# Altium schematic symbol library Connectors.SchLib: 56 symbols (part 2 of 2)
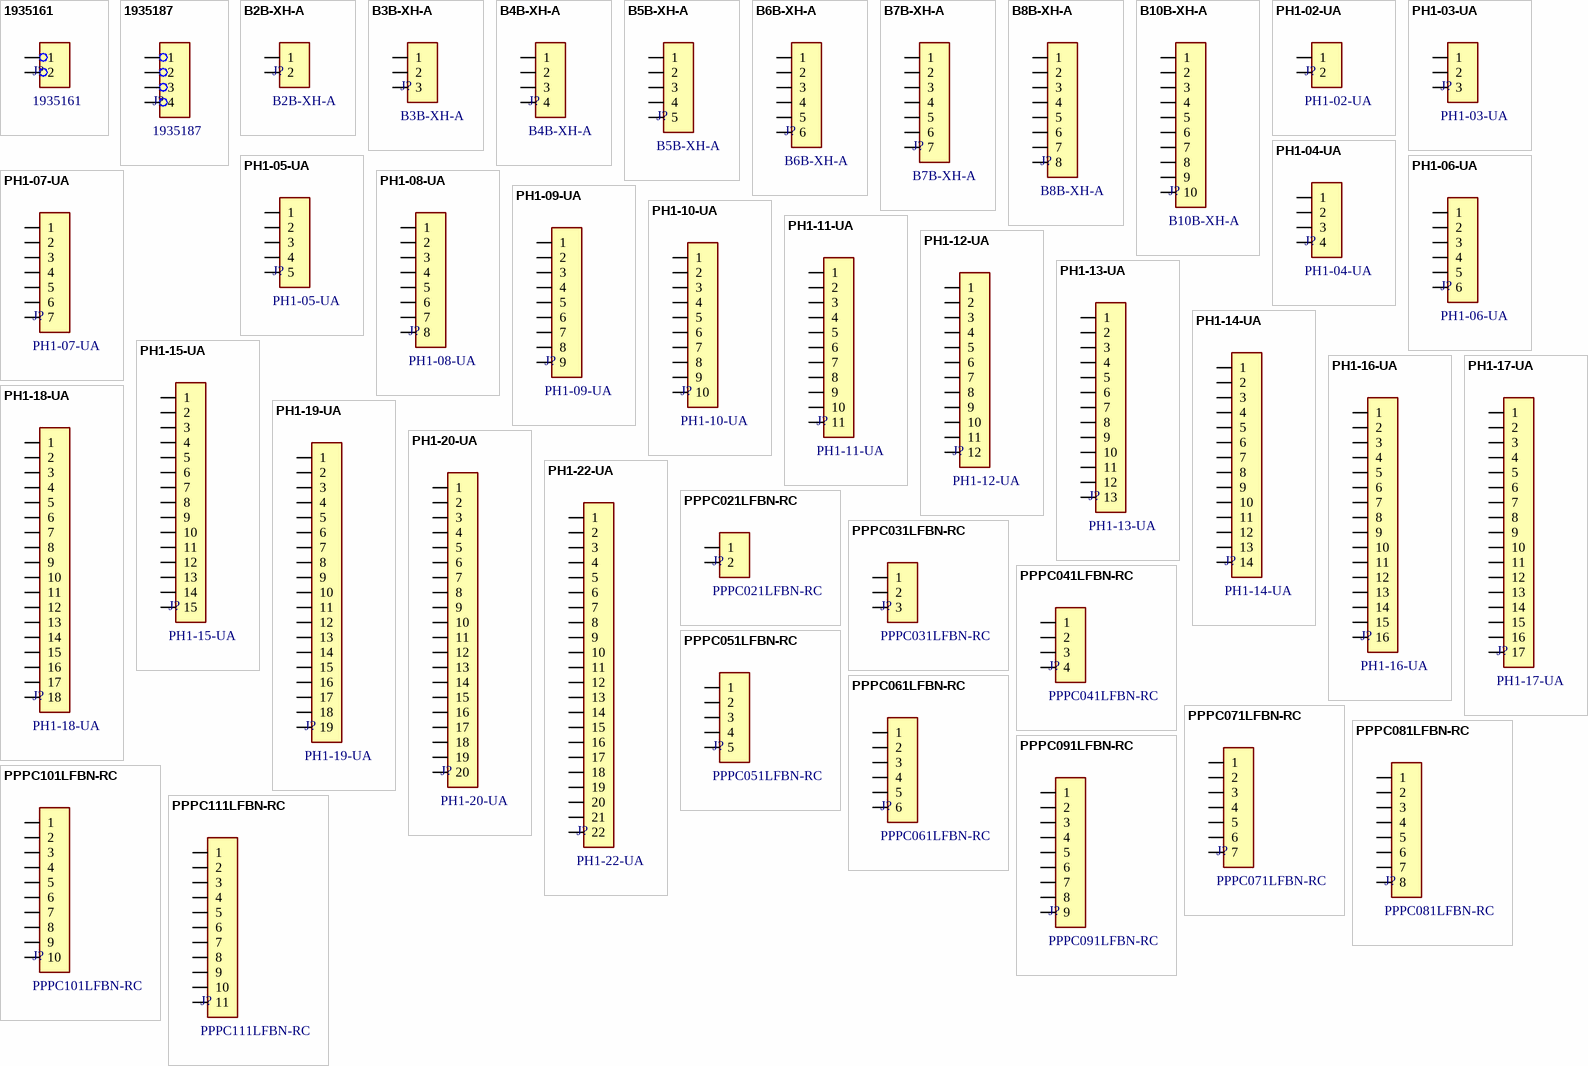
[diagram p2: symbols 1935161 to PPPC111LFBN-RC]

## PPPC031LFBN-RC
designator J?
CONN HDR 3POS 0.1 GOLD PCB; Manufacturer: Sullins; Connector Type: Header, Socket; Current Rating: 3A; Dielectric Material: Polyester; Number of Contacts: 3; Pitch: 2.54mm; Voltage Rating: 250V; Supplier: DigiKey; Supplier Part Number: S7036-ND; Manufacturer Part Number: PPPC031LFBN-RC; RoHS: Compliant; Category: Card Edge Connectors; Stock: 27245; Pricing: 1=0.31, 10=0.264, 100=0.2242, 500=0.20012, 1000=0.19056, 5000=0.17009, 10000=0.16197 (USD); Color: Black; Contact Gender: Female; Contact Material: Gold, Nickel; Contact Plating: Gold; Height: 8.7mm; Housing Material: Plastic; Lead Free: Lead Free; Length: 8.12mm; Lifecycle Status: Production; Max Operating Temperature: 105°C; Min Operating Temperature: -40°C; Mounting Technology: Through Hole; Pins: 3; Number of Positions: 3; Number of Rows: 1; Packaging: Bulk; REACH SVHC: Yes; Terminal Pitch: 2.54mm; Termination: Solder; Width: 2.5mm; ComponentLink1URL: https://datasheet.octopart.com:443/PPPC031LFBN-RC-Sullins-datasheet-138810743.pdf?src-supplier=IHS; ComponentLink1Description: https://datasheet.octopart.com:443/PPPC031LFBN-RC-Sullins-datasheet-138810743.pdf?src-supplier=IHS; ComponentLink2URL: https://sigma.octopart.com:443/83216130/technical_drawing/Sullins-PPPC031LFBN-RC.pdf?src-supplier=Upverter; ComponentLink2Description: https://sigma.octopart.com:443/83216130/technical_drawing/Sullins-PPPC031LFBN-RC.pdf?src-supplier=Upverter; ComponentLink3URL: https://datasheet.octopart.com:443/PPPC031LFBN-RC-Sullins-datasheet-41308905.pdf?src-supplier=Future+Electronics; ComponentLink3Description: https://datasheet.octopart.com:443/PPPC031LFBN-RC-Sullins-datasheet-41308905.pdf?src-supplier=Future+Electronics; ComponentLink4URL: https://datasheet.octopart.com:443/PPPC031LFBN-RC-Sullins-datasheet-12511165.pdf?src-supplier=Future+Electronics; ComponentLink4Description: https://datasheet.octopart.com:443/PPPC031LFBN-RC-Sullins-datasheet-12511165.pdf?src-supplier=Future+Electronics
footprint CON_HDR_FEM_VERT_3P_2P54_PITCH
pins: 1, 2, 3

## PPPC041LFBN-RC
designator J?
CONN HDR 4POS 0.1 GOLD PCB; Manufacturer: Sullins; Connector Type: Header, Socket; Current Rating: 3A; Dielectric Material: Polyester; Number of Positions: 4; Pitch: 2.54mm; Supplier: DigiKey; Supplier Part Number: S7037-ND; Manufacturer Part Number: PPPC041LFBN-RC; RoHS: Compliant; Category: Card Edge Connectors; Stock: 30890; Pricing: 1=0.38, 10=0.321, 100=0.2724, 500=0.24312, 1000=0.23151, 5000=0.20664, 10000=0.19678 (USD); Color: Black; Contact Gender: Female; Contact Material: Bronze; Contact Plating: Gold; Height: 8.5mm; Housing Material: Plastic; Lead Free: Lead Free; Length: 10.7mm; Lifecycle Status: Production; Mounting Technology: Through Hole; Pins: 4; Number of Rows: 1; Packaging: Bulk; REACH SVHC: Yes; Terminal Pitch: 2.54mm; Termination: Solder; Width: 2.5mm; ComponentLink1URL: https://datasheet.octopart.com:443/PPPC041LFBN-RC-Sullins-datasheet-138810743.pdf?src-supplier=IHS; ComponentLink1Description: https://datasheet.octopart.com:443/PPPC041LFBN-RC-Sullins-datasheet-138810743.pdf?src-supplier=IHS; ComponentLink2URL: https://datasheet.octopart.com:443/PPPC041LFBN-RC-Sullins-datasheet-41308905.pdf?src-supplier=Future+Electronics; ComponentLink2Description: https://datasheet.octopart.com:443/PPPC041LFBN-RC-Sullins-datasheet-41308905.pdf?src-supplier=Future+Electronics; ComponentLink3URL: https://datasheet.octopart.com:443/PPPC041LFBN-RC-Sullins-datasheet-12511165.pdf?src-supplier=Future+Electronics; ComponentLink3Description: https://datasheet.octopart.com:443/PPPC041LFBN-RC-Sullins-datasheet-12511165.pdf?src-supplier=Future+Electronics
footprint CON_HDR_FEM_VERT_4P_2P54_PITCH
pins: 1, 2, 3, 4

## PPPC051LFBN-RC
designator J?
CONN HDR 5POS 0.1 GOLD PCB; Manufacturer: Sullins; Connector Type: Header, Socket; Current Rating: 3A; Dielectric Material: Polyester; Number of Positions: 5; Pitch: 2.54mm; Supplier: DigiKey; Supplier Part Number: S7038-ND; Manufacturer Part Number: PPPC051LFBN-RC; RoHS: Compliant; Category: Card Edge Connectors; Stock: 38154; Pricing: 1=0.39, 10=0.335, 100=0.2843, 500=0.25376, 1000=0.24163, 5000=0.21568, 10000=0.20539 (USD); Color: Black; Contact Gender: Female; Contact Material: Bronze; Contact Plating: Gold; Height: 8.5mm; Housing Material: Plastic; Lead Free: Lead Free; Length: 13.2mm; Lifecycle Status: Production; Mounting Technology: Through Hole; Pins: 5; Number of Rows: 1; Packaging: Bulk; REACH SVHC: Yes; Terminal Pitch: 2.54mm; Termination: Solder; Width: 2.5mm; ComponentLink1URL: https://datasheet.octopart.com:443/PPPC051LFBN-RC-Sullins-datasheet-138810743.pdf?src-supplier=IHS; ComponentLink1Description: https://datasheet.octopart.com:443/PPPC051LFBN-RC-Sullins-datasheet-138810743.pdf?src-supplier=IHS; ComponentLink2URL: https://datasheet.octopart.com:443/PPPC051LFBN-RC-Sullins-datasheet-41308905.pdf?src-supplier=Future+Electronics; ComponentLink2Description: https://datasheet.octopart.com:443/PPPC051LFBN-RC-Sullins-datasheet-41308905.pdf?src-supplier=Future+Electronics; ComponentLink3URL: https://datasheet.octopart.com:443/PPPC051LFBN-RC-Sullins-datasheet-12511165.pdf?src-supplier=Future+Electronics; ComponentLink3Description: https://datasheet.octopart.com:443/PPPC051LFBN-RC-Sullins-datasheet-12511165.pdf?src-supplier=Future+Electronics
footprint CON_HDR_FEM_VERT_5P_2P54_PITCH
pins: 1, 2, 3, 4, 5

## PPPC061LFBN-RC
designator J?
CONN HDR 6POS 0.1 GOLD PCB; Manufacturer: Sullins; Connector Type: Header, Socket; Current Rating: 3A; Dielectric Material: Polyester; Number of Contacts: 6; Pitch: 2.54mm; Voltage Rating: 250V; Supplier: DigiKey; Supplier Part Number: S7039-ND; Manufacturer Part Number: PPPC061LFBN-RC; RoHS: Compliant; Category: Card Edge Connectors; Stock: 19179; Pricing: 1=0.43, 10=0.363, 100=0.308, 500=0.2749, 1000=0.26177, 5000=0.23366, 10000=0.22251 (USD); Color: Black; Contact Gender: Female; Contact Material: Gold, Nickel; Contact Plating: Gold; Height: 8.7mm; Housing Material: Plastic; Lead Free: Lead Free; Length: 15.7mm; Lifecycle Status: Production; Max Operating Temperature: 105°C; Min Operating Temperature: -40°C; Mounting Technology: Through Hole; Pins: 6; Number of Positions: 6; Number of Rows: 1; Packaging: Bulk; REACH SVHC: Yes; Terminal Pitch: 2.54mm; Termination: Solder; Width: 2.5mm; ComponentLink1URL: https://datasheet.octopart.com:443/PPPC061LFBN-RC-Sullins-datasheet-138810743.pdf?src-supplier=IHS; ComponentLink1Description: https://datasheet.octopart.com:443/PPPC061LFBN-RC-Sullins-datasheet-138810743.pdf?src-supplier=IHS; ComponentLink2URL: https://sigma.octopart.com:443/83216130/technical_drawing/Sullins-PPPC061LFBN-RC.pdf?src-supplier=Upverter; ComponentLink2Description: https://sigma.octopart.com:443/83216130/technical_drawing/Sullins-PPPC061LFBN-RC.pdf?src-supplier=Upverter; ComponentLink3URL: https://datasheet.octopart.com:443/PPPC061LFBN-RC-Sullins-datasheet-47864048.pdf?src-supplier=Future+Electronics; ComponentLink3Description: https://datasheet.octopart.com:443/PPPC061LFBN-RC-Sullins-datasheet-47864048.pdf?src-supplier=Future+Electronics
footprint CON_HDR_FEM_VERT_6P_2P54_PITCH
pins: 1, 2, 3, 4, 5, 6

## PPPC071LFBN-RC
designator J?
CONN HDR 7POS 0.1 GOLD PCB; Manufacturer: Sullins; Connector Type: Header, Socket; Current Rating: 3A; Dielectric Material: Polyester; Number of Positions: 7; Pitch: 2.54mm; Supplier: DigiKey; Supplier Part Number: S7040-ND; Manufacturer Part Number: PPPC071LFBN-RC; RoHS: Compliant; Category: Card Edge Connectors; Stock: 22423; Pricing: 1=0.48, 10=0.412, 100=0.3499, 500=0.3123, 1000=0.29738, 5000=0.26545, 10000=0.25279 (USD); Color: Black; Contact Gender: Female; Contact Material: Bronze; Contact Plating: Gold; Height: 8.5mm; Housing Material: Plastic; Lead Free: Lead Free; Lead Pitch: 2.54mm; Length: 18.3mm; Lifecycle Status: Production; Max Operating Temperature: 105°C; Min Operating Temperature: -40°C; Mounting Technology: Through Hole; Pins: 7; Number of Rows: 1; Packaging: Bulk; REACH SVHC: Yes; Terminal Pitch: 2.54mm; Termination: Solder; Width: 2.5mm; ComponentLink1URL: https://datasheet.octopart.com:443/PPPC071LFBN-RC-Sullins-datasheet-138810743.pdf?src-supplier=IHS; ComponentLink1Description: https://datasheet.octopart.com:443/PPPC071LFBN-RC-Sullins-datasheet-138810743.pdf?src-supplier=IHS; ComponentLink2URL: https://datasheet.octopart.com:443/PPPC071LFBN-RC-Sullins-datasheet-32035511.pdf?src-supplier=Upverter; ComponentLink2Description: https://datasheet.octopart.com:443/PPPC071LFBN-RC-Sullins-datasheet-32035511.pdf?src-supplier=Upverter
footprint CON_HDR_FEM_VERT_7P_2P54_PITCH
pins: 1, 2, 3, 4, 5, 6, 7

## PPPC081LFBN-RC
designator J?
CONN HDR 8POS 0.1 GOLD PCB; Manufacturer: Sullins; Connector Type: Header, Socket; Current Rating: 3A; Dielectric Material: Polyester; Number of Contacts: 8; Pitch: 2.54mm; Voltage Rating: 250V; Supplier: DigiKey; Supplier Part Number: S7041-ND; Manufacturer Part Number: PPPC081LFBN-RC; RoHS: Compliant; Category: Headers and Wire Housings; Stock: 28483; Pricing: 1=0.53, 10=0.449, 100=0.3814, 500=0.34044, 1000=0.32417, 5000=0.28937, 10000=0.27556 (USD); Case/Package: TO-252-3; Color: Black; Contact Gender: Female; Contact Material: Gold, Nickel; Contact Plating: Gold; Height: 2.39mm; Housing Material: Plastic; Lead Free: Lead Free; Length: 6.73mm; Lifecycle Status: Production; Max Operating Temperature: 105°C; Min Operating Temperature: -40°C; Mounting Technology: Surface Mount; Pins: 8; Number of Positions: 8; Number of Rows: 1; Packaging: Tape and Reel; Radiation Hardening: No; REACH SVHC: Yes; Terminal Pitch: 2.54mm; Termination: Solder; Width: 6.22mm; ComponentLink1URL: https://datasheet.octopart.com:443/PPPC081LFBN-RC-Sullins-datasheet-138810743.pdf?src-supplier=IHS; ComponentLink1Description: https://datasheet.octopart.com:443/PPPC081LFBN-RC-Sullins-datasheet-138810743.pdf?src-supplier=IHS; ComponentLink2URL: https://datasheet.octopart.com:443/PPPC081LFBN-RC-Sullins-datasheet-41308905.pdf?src-supplier=Upverter; ComponentLink2Description: https://datasheet.octopart.com:443/PPPC081LFBN-RC-Sullins-datasheet-41308905.pdf?src-supplier=Upverter; ComponentLink3URL: https://sigma.octopart.com:443/83216130/technical_drawing/Sullins-PPPC081LFBN-RC.pdf?src-supplier=Upverter; ComponentLink3Description: https://sigma.octopart.com:443/83216130/technical_drawing/Sullins-PPPC081LFBN-RC.pdf?src-supplier=Upverter; ComponentLink4URL: https://datasheet.octopart.com:443/PPPC081LFBN-RC-Sullins-datasheet-12511165.pdf?src-supplier=Future+Electronics; ComponentLink4Description: https://datasheet.octopart.com:443/PPPC081LFBN-RC-Sullins-datasheet-12511165.pdf?src-supplier=Future+Electronics
footprint CON_HDR_FEM_VERT_8P_2P54_PITCH
pins: 1, 2, 3, 4, 5, 6, 7, 8

## PPPC091LFBN-RC
designator J?
CONN HDR 9POS 0.1 GOLD PCB; Manufacturer: Sullins; Connector Type: Header, Socket; Current Rating: 3A; Dielectric Material: Polyester; Number of Contacts: 9; Pitch: 2.54mm; Voltage Rating: 250V; Supplier: DigiKey; Supplier Part Number: S7042-ND; Manufacturer Part Number: PPPC091LFBN-RC; RoHS: Compliant; Category: Card Edge Connectors; Stock: 17765; Pricing: 1=0.58, 10=0.49, 100=0.416, 500=0.37132, 1000=0.35358, 5000=0.31562, 10000=0.30163 (USD); Color: Black; Contact Gender: Female; Contact Material: Gold, Nickel; Contact Plating: Gold; Height: 8.7mm; Housing Material: Plastic; Lead Free: Lead Free; Length: 23.4mm; Lifecycle Status: Production; Max Operating Temperature: 105°C; Min Operating Temperature: -40°C; Mounting Technology: Through Hole; Pins: 9; Number of Positions: 9; Number of Rows: 1; Packaging: Bulk; REACH SVHC: Yes; Terminal Pitch: 2.54mm; Termination: Solder; Width: 2.5mm; ComponentLink1URL: https://datasheet.octopart.com:443/PPPC091LFBN-RC-Sullins-datasheet-138810743.pdf?src-supplier=IHS; ComponentLink1Description: https://datasheet.octopart.com:443/PPPC091LFBN-RC-Sullins-datasheet-138810743.pdf?src-supplier=IHS; ComponentLink2URL: https://sigma.octopart.com:443/83216130/technical_drawing/Sullins-PPPC091LFBN-RC.pdf?src-supplier=Future+Electronics; ComponentLink2Description: https://sigma.octopart.com:443/83216130/technical_drawing/Sullins-PPPC091LFBN-RC.pdf?src-supplier=Future+Electronics
footprint CON_HDR_FEM_VERT_9P_2P54_PITCH
pins: 1, 2, 3, 4, 5, 6, 7, 8, 9

## PPPC101LFBN-RC
designator J?
CONN HDR 10POS 0.1 GOLD PCB; Manufacturer: Sullins; Connector Type: Header, Socket; Current Rating: 3A; Dielectric Material: Polyester; Number of Contacts: 10; Pitch: 2.54mm; Voltage Rating: 250V; Supplier: DigiKey; Supplier Part Number: S7043-ND; Manufacturer Part Number: PPPC101LFBN-RC; RoHS: Compliant; Category: Card Edge Connectors; Stock: 25256; Pricing: 1=0.58, 10=0.493, 100=0.4193, 500=0.37422, 1000=0.35634, 5000=0.31808, 10000=0.3042 (USD); Color: Black; Contact Gender: Female; Contact Material: Gold, Nickel; Contact Plating: Gold; Height: 8.7mm; Housing Material: Plastic; Lead Free: Lead Free; Length: 25.9mm; Lifecycle Status: Production; Max Operating Temperature: 105°C; Min Operating Temperature: -40°C; Mounting Technology: Through Hole; Pins: 10; Number of Positions: 10; Number of Rows: 1; Packaging: Bulk; REACH SVHC: Yes; Terminal Pitch: 2.54mm; Termination: Solder; Width: 2.5mm; ComponentLink1URL: https://datasheet.octopart.com:443/PPPC101LFBN-RC-Sullins-datasheet-138810743.pdf?src-supplier=IHS; ComponentLink1Description: https://datasheet.octopart.com:443/PPPC101LFBN-RC-Sullins-datasheet-138810743.pdf?src-supplier=IHS; ComponentLink2URL: https://sigma.octopart.com:443/83216130/technical_drawing/Sullins-PPPC101LFBN-RC.pdf?src-supplier=Upverter; ComponentLink2Description: https://sigma.octopart.com:443/83216130/technical_drawing/Sullins-PPPC101LFBN-RC.pdf?src-supplier=Upverter; ComponentLink3URL: https://datasheet.octopart.com:443/PPPC101LFBN-RC-Sullins-datasheet-41308905.pdf?src-supplier=Future+Electronics; ComponentLink3Description: https://datasheet.octopart.com:443/PPPC101LFBN-RC-Sullins-datasheet-41308905.pdf?src-supplier=Future+Electronics; ComponentLink4URL: https://datasheet.octopart.com:443/PPPC101LFBN-RC-Sullins-datasheet-12511165.pdf?src-supplier=Future+Electronics; ComponentLink4Description: https://datasheet.octopart.com:443/PPPC101LFBN-RC-Sullins-datasheet-12511165.pdf?src-supplier=Future+Electronics
footprint CON_HDR_FEM_VERT_10P_2P54_PITCH
pins: 1, 2, 3, 4, 5, 6, 7, 8, 9, 10

## PPPC111LFBN-RC
designator J?
CONN HDR 11POS 0.1 GOLD PCB; Manufacturer: Sullins; Connector Type: Header, Socket; Current Rating: 3A; Dielectric Material: Polyester; Number of Positions: 11; Pitch: 2.54mm; Supplier: DigiKey; Supplier Part Number: S7044-ND; Manufacturer Part Number: PPPC111LFBN-RC; RoHS: Compliant; Category: Card Edge Connectors; Stock: 2469; Pricing: 1=0.7, 10=0.591, 100=0.5021, 500=0.44812, 1000=0.42673, 5000=0.38092, 10000=0.3705 (USD); Color: Black; Contact Gender: Female; Contact Material: Bronze; Contact Plating: Gold; Height: 8.5mm; Housing Material: Plastic; Lead Free: Lead Free; Length: 28.4mm; Lifecycle Status: Production; Mounting Technology: Through Hole; Pins: 11; Number of Rows: 1; Packaging: Bulk; REACH SVHC: Yes; Terminal Pitch: 2.54mm; Termination: Solder; Width: 2.5mm; ComponentLink1URL: https://datasheet.octopart.com:443/PPPC111LFBN-RC-Sullins-datasheet-138810743.pdf?src-supplier=IHS; ComponentLink1Description: https://datasheet.octopart.com:443/PPPC111LFBN-RC-Sullins-datasheet-138810743.pdf?src-supplier=IHS
footprint CON_HDR_FEM_VERT_11P_2P54_PITCH
pins: 1, 2, 3, 4, 5, 6, 7, 8, 9, 10, 11

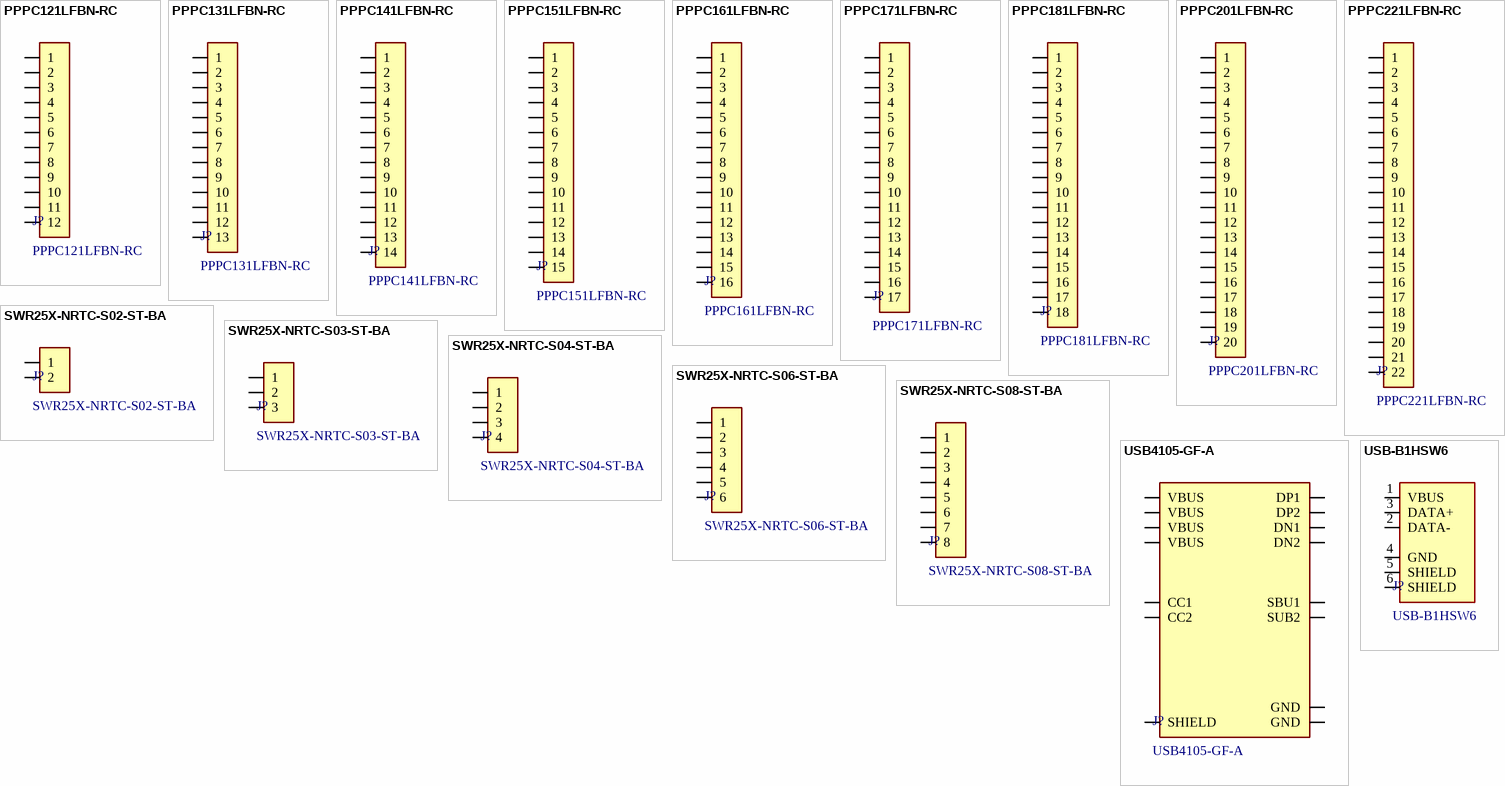
[diagram p1: symbols PPPC121LFBN-RC to USB-B1HSW6]

## PPPC121LFBN-RC
designator J?
CONN HDR 12POS 0.1 GOLD PCB; Manufacturer: Sullins; Connector Type: Header, Socket; Current Rating: 3A; Dielectric Material: Polyester; Number of Positions: 12; Pitch: 2.54mm; Supplier: DigiKey; Supplier Part Number: S7045-ND; Manufacturer Part Number: PPPC121LFBN-RC; RoHS: Compliant; Category: Card Edge Connectors; Stock: 16843; Pricing: 1=0.69, 10=0.587, 100=0.4991, 500=0.44542, 1000=0.42414, 5000=0.37861, 10000=0.36804 (USD); Color: Black; Contact Gender: Female; Contact Material: Bronze; Contact Plating: Gold; Height: 8.5mm; Housing Material: Plastic; Lead Free: Lead Free; Length: 31mm; Lifecycle Status: Production; Max Operating Temperature: 105°C; Min Operating Temperature: -40°C; Mounting Technology: Through Hole; Pins: 12; Number of Rows: 1; Packaging: Bulk; REACH SVHC: Yes; Terminal Pitch: 2.54mm; Termination: Solder; Width: 2.5mm; ComponentLink1URL: https://datasheet.octopart.com:443/PPPC121LFBN-RC-Sullins-datasheet-138810743.pdf?src-supplier=IHS; ComponentLink1Description: https://datasheet.octopart.com:443/PPPC121LFBN-RC-Sullins-datasheet-138810743.pdf?src-supplier=IHS; ComponentLink2URL: https://datasheet.octopart.com:443/PPPC121LFBN-RC-Sullins-datasheet-47864048.pdf?src-supplier=Upverter; ComponentLink2Description: https://datasheet.octopart.com:443/PPPC121LFBN-RC-Sullins-datasheet-47864048.pdf?src-supplier=Upverter; ComponentLink3URL: https://datasheet.octopart.com:443/PPPC121LFBN-RC-Sullins-datasheet-41308905.pdf?src-supplier=Future+Electronics; ComponentLink3Description: https://datasheet.octopart.com:443/PPPC121LFBN-RC-Sullins-datasheet-41308905.pdf?src-supplier=Future+Electronics; ComponentLink4URL: https://datasheet.octopart.com:443/PPPC121LFBN-RC-Sullins-datasheet-12511165.pdf?src-supplier=Future+Electronics; ComponentLink4Description: https://datasheet.octopart.com:443/PPPC121LFBN-RC-Sullins-datasheet-12511165.pdf?src-supplier=Future+Electronics
footprint CON_HDR_FEM_VERT_12P_2P54_PITCH
pins: 1, 2, 3, 4, 5, 6, 7, 8, 9, 10, 11, 12

## PPPC131LFBN-RC
designator J?
CONN HDR 13POS 0.1 GOLD PCB; Manufacturer: Sullins; Connector Type: Header, Socket; Current Rating: 3A; Dielectric Material: Polyester; Number of Positions: 13; Pitch: 2.54mm; Supplier: DigiKey; Supplier Part Number: S7046-ND; Manufacturer Part Number: PPPC131LFBN-RC; RoHS: Compliant; Category: Card Edge Connectors; Stock: 10689; Pricing: 1=0.76, 10=0.644, 100=0.5471, 500=0.48828, 1000=0.46497, 5000=0.41506, 10000=0.40697 (USD); Color: Black; Contact Gender: Female; Contact Material: Bronze; Contact Plating: Gold; Height: 8.5mm; Housing Material: Plastic; Lead Free: Lead Free; Length: 33.5mm; Lifecycle Status: Production; Mounting Technology: Through Hole; Pins: 13; Number of Rows: 1; Packaging: Bulk; REACH SVHC: Yes; Terminal Pitch: 2.54mm; Termination: Solder; Width: 2.5mm; ComponentLink1URL: https://datasheet.octopart.com:443/PPPC131LFBN-RC-Sullins-datasheet-138810743.pdf?src-supplier=IHS; ComponentLink1Description: https://datasheet.octopart.com:443/PPPC131LFBN-RC-Sullins-datasheet-138810743.pdf?src-supplier=IHS
footprint CON_HDR_FEM_VERT_13P_2P54_PITCH
pins: 1, 2, 3, 4, 5, 6, 7, 8, 9, 10, 11, 12, 13

## PPPC141LFBN-RC
designator J?
CONN HDR 14POS 0.1 GOLD PCB; Manufacturer: Sullins; Connector Type: Header, Socket; Current Rating: 3A; Dielectric Material: Polyester; Number of Positions: 14; Pitch: 2.54mm; Supplier: DigiKey; Supplier Part Number: S7047-ND; Manufacturer Part Number: PPPC141LFBN-RC; RoHS: Compliant; Category: Card Edge Connectors; Stock: 9730; Pricing: 1=0.87, 10=0.737, 100=0.6264, 500=0.55906, 1000=0.53236, 5000=0.47523, 10000=0.4719 (USD); Color: Black; Contact Gender: Female; Contact Material: Bronze; Contact Plating: Gold; Height: 8.5mm; Housing Material: Plastic; Lead Free: Lead Free; Length: 36.1mm; Lifecycle Status: Production; Max Operating Temperature: 105°C; Min Operating Temperature: -40°C; Mounting Technology: Through Hole; Pins: 14; Number of Rows: 1; Packaging: Bulk; REACH SVHC: Yes; Terminal Pitch: 2.54mm; Termination: Solder; Width: 2.5mm; ComponentLink1URL: https://datasheet.octopart.com:443/PPPC141LFBN-RC-Sullins-datasheet-138810743.pdf?src-supplier=IHS; ComponentLink1Description: https://datasheet.octopart.com:443/PPPC141LFBN-RC-Sullins-datasheet-138810743.pdf?src-supplier=IHS; ComponentLink2URL: https://datasheet.octopart.com:443/PPPC141LFBN-RC-Sullins-datasheet-83216130.pdf?src-supplier=Upverter; ComponentLink2Description: https://datasheet.octopart.com:443/PPPC141LFBN-RC-Sullins-datasheet-83216130.pdf?src-supplier=Upverter; ComponentLink3URL: https://datasheet.octopart.com:443/PPPC141LFBN-RC-Sullins-datasheet-12463.pdf?src-supplier=Future+Electronics; ComponentLink3Description: https://datasheet.octopart.com:443/PPPC141LFBN-RC-Sullins-datasheet-12463.pdf?src-supplier=Future+Electronics; ComponentLink4URL: https://datasheet.octopart.com:443/PPPC141LFBN-RC-Sullins-datasheet-41308905.pdf?src-supplier=Future+Electronics; ComponentLink4Description: https://datasheet.octopart.com:443/PPPC141LFBN-RC-Sullins-datasheet-41308905.pdf?src-supplier=Future+Electronics; ComponentLink5URL: https://datasheet.octopart.com:443/PPPC141LFBN-RC-Sullins-datasheet-12511165.pdf?src-supplier=Future+Electronics; ComponentLink5Description: https://datasheet.octopart.com:443/PPPC141LFBN-RC-Sullins-datasheet-12511165.pdf?src-supplier=Future+Electronics
footprint CON_HDR_FEM_VERT_14P_2P54_PITCH
pins: 1, 2, 3, 4, 5, 6, 7, 8, 9, 10, 11, 12, 13, 14

## PPPC151LFBN-RC
designator J?
CONN HDR 15POS 0.1 GOLD PCB; Manufacturer: Sullins; Connector Type: Header, Socket; Current Rating: 3A; Dielectric Material: Polyester; Number of Positions: 15; Pitch: 2.54mm; Supplier: DigiKey; Supplier Part Number: S7048-ND; Manufacturer Part Number: PPPC151LFBN-RC; RoHS: Compliant; Category: Card Edge Connectors; Stock: 14510; Pricing: 1=0.85, 10=0.724, 100=0.615, 500=0.54894, 1000=0.52272, 5000=0.46662, 10000=0.46257 (USD); Color: Black; Contact Gender: Female; Contact Material: Bronze; Contact Plating: Gold; Height: 8.5mm; Housing Material: Plastic; Lead Free: Lead Free; Length: 38.6mm; Lifecycle Status: Production; Mounting Technology: Through Hole; Pins: 15; Number of Rows: 1; Packaging: Bulk; REACH SVHC: Yes; Terminal Pitch: 2.54mm; Termination: Solder; Width: 2.5mm; ComponentLink1URL: https://datasheet.octopart.com:443/PPPC151LFBN-RC-Sullins-datasheet-138810743.pdf?src-supplier=IHS; ComponentLink1Description: https://datasheet.octopart.com:443/PPPC151LFBN-RC-Sullins-datasheet-138810743.pdf?src-supplier=IHS
footprint CON_HDR_FEM_VERT_15P_2P54_PITCH
pins: 1, 2, 3, 4, 5, 6, 7, 8, 9, 10, 11, 12, 13, 14, 15

## PPPC161LFBN-RC
designator J?
CONN HDR 16POS 0.1 GOLD PCB; Manufacturer: Sullins; Connector Type: Header, Socket; Current Rating: 3A; Dielectric Material: Polyester; Number of Positions: 16; Pitch: 2.54mm; Supplier: DigiKey; Supplier Part Number: S7049-ND; Manufacturer Part Number: PPPC161LFBN-RC; RoHS: Compliant; Category: Card Edge Connectors; Stock: 9817; Pricing: 1=0.86, 10=0.729, 100=0.6194, 500=0.5528, 1000=0.52641, 5000=0.46991, 10000=0.46613 (USD); Color: Black; Contact Gender: Female; Contact Material: Bronze; Contact Plating: Gold; Height: 8.5mm; Housing Material: Plastic; Lead Free: Lead Free; Length: 41.1mm; Lifecycle Status: Production; Mounting Technology: Through Hole; Pins: 16; Number of Rows: 1; Packaging: Bulk; REACH SVHC: Yes; Terminal Pitch: 2.54mm; Termination: Solder; Width: 2.5mm; ComponentLink1URL: https://datasheet.octopart.com:443/PPPC161LFBN-RC-Sullins-datasheet-138810743.pdf?src-supplier=IHS; ComponentLink1Description: https://datasheet.octopart.com:443/PPPC161LFBN-RC-Sullins-datasheet-138810743.pdf?src-supplier=IHS; ComponentLink2URL: https://datasheet.octopart.com:443/PPPC161LFBN-RC-Sullins-datasheet-73726303.pdf?src-supplier=Future+Electronics; ComponentLink2Description: https://datasheet.octopart.com:443/PPPC161LFBN-RC-Sullins-datasheet-73726303.pdf?src-supplier=Future+Electronics; ComponentLink3URL: https://datasheet.octopart.com:443/PPPC161LFBN-RC-Sullins-datasheet-83216130.pdf?src-supplier=Future+Electronics; ComponentLink3Description: https://datasheet.octopart.com:443/PPPC161LFBN-RC-Sullins-datasheet-83216130.pdf?src-supplier=Future+Electronics; ComponentLink4URL: https://datasheet.octopart.com:443/PPPC161LFBN-RC-Sullins-datasheet-47864048.pdf?src-supplier=Future+Electronics; ComponentLink4Description: https://datasheet.octopart.com:443/PPPC161LFBN-RC-Sullins-datasheet-47864048.pdf?src-supplier=Future+Electronics
footprint CON_HDR_FEM_VERT_16P_2P54_PITCH
pins: 1, 2, 3, 4, 5, 6, 7, 8, 9, 10, 11, 12, 13, 14, 15, 16

## PPPC171LFBN-RC
designator J?
CONN HDR 17POS 0.1 GOLD PCB; Manufacturer: Sullins; Connector Type: Header, Socket; Current Rating: 3A; Dielectric Material: Polyester; Number of Positions: 17; Pitch: 2.54mm; Supplier: DigiKey; Supplier Part Number: S7050-ND; Manufacturer Part Number: PPPC171LFBN-RC; RoHS: Compliant; Category: Card Edge Connectors; Stock: 1799; Pricing: 1=0.98, 10=0.835, 100=0.7095, 500=0.63324, 1000=0.603, 5000=0.5408 (USD); Color: Black; Contact Gender: Female; Contact Material: Bronze; Contact Plating: Gold; Height: 8.5mm; Housing Material: Plastic; Lead Free: Lead Free; Length: 43.7mm; Lifecycle Status: Production; Mounting Technology: Through Hole; Pins: 17; Number of Rows: 1; Packaging: Bulk; REACH SVHC: Yes; Terminal Pitch: 2.54mm; Termination: Solder; Width: 2.5mm; ComponentLink1URL: https://datasheet.octopart.com:443/PPPC171LFBN-RC-Sullins-datasheet-138810743.pdf?src-supplier=IHS; ComponentLink1Description: https://datasheet.octopart.com:443/PPPC171LFBN-RC-Sullins-datasheet-138810743.pdf?src-supplier=IHS
footprint CON_HDR_FEM_VERT_17P_2P54_PITCH
pins: 1, 2, 3, 4, 5, 6, 7, 8, 9, 10, 11, 12, 13, 14, 15, 16, 17

## PPPC181LFBN-RC
designator J?
CONN HDR 18POS 0.1 GOLD PCB; Manufacturer: Sullins; Connector Type: Header, Socket; Current Rating: 3A; Dielectric Material: Polyester; Number of Positions: 18; Pitch: 2.54mm; Supplier: DigiKey; Supplier Part Number: S7051-ND; Manufacturer Part Number: PPPC181LFBN-RC; RoHS: Compliant; Category: Card Edge Connectors; Stock: 8325; Pricing: 1=1.03, 10=0.879, 100=0.7468, 500=0.66656, 1000=0.63474, 5000=0.572 (USD); Color: Black; Contact Gender: Female; Contact Material: Bronze; Contact Plating: Gold; Height: 8.5mm; Housing Material: Plastic; Lead Free: Lead Free; Length: 46.2mm; Lifecycle Status: Production; Mounting Technology: Through Hole; Pins: 18; Number of Rows: 1; Packaging: Bulk; REACH SVHC: Yes; Terminal Pitch: 2.54mm; Termination: Solder; Width: 2.5mm; ComponentLink1URL: https://datasheet.octopart.com:443/PPPC181LFBN-RC-Sullins-datasheet-138810743.pdf?src-supplier=IHS; ComponentLink1Description: https://datasheet.octopart.com:443/PPPC181LFBN-RC-Sullins-datasheet-138810743.pdf?src-supplier=IHS; ComponentLink2URL: https://datasheet.octopart.com:443/PPPC181LFBN-RC-Sullins-datasheet-83216130.pdf?src-supplier=Future+Electronics; ComponentLink2Description: https://datasheet.octopart.com:443/PPPC181LFBN-RC-Sullins-datasheet-83216130.pdf?src-supplier=Future+Electronics
footprint CON_HDR_FEM_VERT_18P_2P54_PITCH
pins: 1, 2, 3, 4, 5, 6, 7, 8, 9, 10, 11, 12, 13, 14, 15, 16, 17, 18

## PPPC201LFBN-RC
designator J?
CONN HDR 20POS 0.1 GOLD PCB; Manufacturer: Sullins; Connector Type: Header, Socket; Current Rating: 3A; Dielectric Material: Polyester; Number of Positions: 20; Pitch: 2.54mm; Supplier: DigiKey; Supplier Part Number: S7053-ND; Manufacturer Part Number: PPPC201LFBN-RC; RoHS: Compliant; Category: Card Edge Connectors; Stock: 7712; Pricing: 1=1.14, 10=0.968, 100=0.8225, 500=0.73412, 1000=0.69907, 5000=0.6357 (USD); Color: Black; Contact Gender: Female; Contact Material: Bronze; Contact Plating: Gold; Height: 8.5mm; Housing Material: Plastic; Lead Free: Lead Free; Length: 51.3mm; Lifecycle Status: Production; Mounting Technology: Through Hole; Pins: 20; Number of Rows: 1; Packaging: Bulk; REACH SVHC: Yes; Terminal Pitch: 2.54mm; Termination: Solder; Width: 2.5mm; ComponentLink1URL: https://datasheet.octopart.com:443/PPPC201LFBN-RC-Sullins-datasheet-138810743.pdf?src-supplier=IHS; ComponentLink1Description: https://datasheet.octopart.com:443/PPPC201LFBN-RC-Sullins-datasheet-138810743.pdf?src-supplier=IHS; ComponentLink2URL: https://datasheet.octopart.com:443/PPPC201LFBN-RC-Sullins-datasheet-12511165.pdf?src-supplier=Factory+Futures; ComponentLink2Description: https://datasheet.octopart.com:443/PPPC201LFBN-RC-Sullins-datasheet-12511165.pdf?src-supplier=Factory+Futures; ComponentLink3URL: https://datasheet.octopart.com:443/PPPC201LFBN-RC-Sullins-datasheet-41308905.pdf?src-supplier=Future+Electronics; ComponentLink3Description: https://datasheet.octopart.com:443/PPPC201LFBN-RC-Sullins-datasheet-41308905.pdf?src-supplier=Future+Electronics
footprint CON_HDR_FEM_VERT_20P_2P54_PITCH
pins: 1, 2, 3, 4, 5, 6, 7, 8, 9, 10, 11, 12, 13, 14, 15, 16, 17, 18, 19, 20

## PPPC221LFBN-RC
designator J?
CONN HDR 22POS 0.1 GOLD PCB; Manufacturer: Sullins; Connector Type: Header, Socket; Current Rating: 3A; Dielectric Material: Polyester; Number of Positions: 22; Pitch: 2.54mm; Supplier: DigiKey; Supplier Part Number: S7055-ND; Manufacturer Part Number: PPPC221LFBN-RC; RoHS: Compliant; Category: Card Edge Connectors; Stock: 1982; Pricing: 1=1.24, 10=1.056, 100=0.8975, 500=0.8011, 1000=0.76285, 5000=0.6994 (USD); Color: Black; Contact Gender: Female; Contact Material: Bronze; Contact Plating: Gold; Height: 8.5mm; Housing Material: Plastic; Lead Free: Lead Free; Length: 56.4mm; Lifecycle Status: Production; Mounting Technology: Through Hole; Pins: 22; Number of Rows: 1; Packaging: Bulk; REACH SVHC: Yes; Terminal Pitch: 2.54mm; Termination: Solder; Width: 2.5mm; ComponentLink1URL: https://datasheet.octopart.com:443/PPPC221LFBN-RC-Sullins-datasheet-138810743.pdf?src-supplier=IHS; ComponentLink1Description: https://datasheet.octopart.com:443/PPPC221LFBN-RC-Sullins-datasheet-138810743.pdf?src-supplier=IHS; ComponentLink2URL: https://datasheet.octopart.com:443/PPPC221LFBN-RC-Sullins-datasheet-47864048.pdf?src-supplier=Future+Electronics; ComponentLink2Description: https://datasheet.octopart.com:443/PPPC221LFBN-RC-Sullins-datasheet-47864048.pdf?src-supplier=Future+Electronics; ComponentLink3URL: https://datasheet.octopart.com:443/PPPC221LFBN-RC-Sullins-datasheet-12511165.pdf?src-supplier=Factory+Futures; ComponentLink3Description: https://datasheet.octopart.com:443/PPPC221LFBN-RC-Sullins-datasheet-12511165.pdf?src-supplier=Factory+Futures
footprint CON_HDR_FEM_VERT_22P_2P54_PITCH
pins: 1, 2, 3, 4, 5, 6, 7, 8, 9, 10, 11, 12, 13, 14, 15, 16, 17, 18, 19, 20, 21, 22

## SWR25X-NRTC-S02-ST-BA
designator J?
CONN HEADER VERT 2POS 2.54MM; Manufacturer: Sullins; Manufacturer Series: SWR25X; Connector Type: BOARD CONNECTOR; Contact Pattern: RECTANGULAR; Contact Resistance: 20mR; Contact Style: SQ PIN-SKT; Dielectric Withstanding Voltage (AC): 1kV; Insulation Resistance: 1GR; Number Of Connectors: 1; Polarization Key: POLARIZED HOUSING; Rated Current (Signal): 5A; Number of Contacts: 2; Body Breadth: 0.228inch; Body Depth: 0.449inch; Body Length: 0.202inch; Mating Contact Pitch: 0.1inch; Mounting Option 1: LOCKING; Reference Standard: UL; Reliability: COMMERCIAL; Supplier: Digikey; Supplier Part Number: S9407-ND; Manufacturer Part Number: SWR25X-NRTC-S02-ST-BA; RoHS: Yes; Category: Connectors; Stock: 21532; Pricing: 1=0.12, 10=0.093, 100=0.0686, 500=0.05678, 2000=0.04732, 6000=0.04259, 10000=0.04141 (USD); Mounting Technology: Board; Contact Material: Brass; Contact Finish - Mating: SN ON NI; Contact Finish - Termination: TIN OVER NICKEL; Insulation Color: Beige; Insulation Material: Nylon; Min Operating Temperature: -25°C; Max Operating Temperature: 85°C; Contact Gender: Male; Mounting Style: STRAIGHT; Number Of PCB Rows: 1; Number of Rows Loaded: 1; PCB Contact Pattern: RECTANGULAR; Termination: Solder; Terminal Length: 0.134inch; Terminal Pitch: 2.54mm; Reach SVHC Compliant: Yes; RoHS Compliant: Yes; ComponentLink1URL: https://datasheet.ciiva.com:443/pdfs/VipMasterIC/IC/SUCS/SUCSS00231/SUCSS00231-1.pdf?src-supplier=IHS+Markit; ComponentLink1Description: https://datasheet.ciiva.com:443/pdfs/VipMasterIC/IC/SUCS/SUCSS00231/SUCSS00231-1.pdf?src-supplier=IHS+Markit; ComponentLink2URL: https://datasheet.ciiva.com/740/swr25x-nrtc-sxx-st-ba-740720.pdf?src-supplier=Digikey; ComponentLink2Description: https://datasheet.ciiva.com/740/swr25x-nrtc-sxx-st-ba-740720.pdf?src-supplier=Digikey
footprint CON_SWR25X_2P_2P54_PITCH
pins: 1, 2

## SWR25X-NRTC-S03-ST-BA
designator J?
CONN HEADER VERT 3POS 2.54MM; Manufacturer: Sullins; Manufacturer Series: SWR25X; Connector Type: BOARD CONNECTOR; Contact Pattern: RECTANGULAR; Contact Resistance: 20mR; Contact Style: SQ PIN-SKT; Dielectric Withstanding Voltage (AC): 1kV; Insulation Resistance: 1GR; Number of Rows Loaded: 1; Polarization Key: POLARIZED HOUSING; Rated Current (Signal): 5A; Number of Contacts: 3; Body Breadth: 0.228inch; Body Depth: 0.449inch; Body Length: 0.302inch; Mating Contact Pitch: 0.1inch; Mounting Option 1: LOCKING; Reference Standard: UL; Reliability: COMMERCIAL; Supplier: Digikey; Supplier Part Number: S9411-ND; Manufacturer Part Number: SWR25X-NRTC-S03-ST-BA; RoHS: Yes; Category: Connectors; Stock: 27208; Pricing: 1=0.18, 10=0.139, 100=0.1029, 500=0.08518, 2000=0.07098, 6000=0.06388, 10000=0.06211 (USD); Mounting Technology: Board; Insulation Color: Beige; Insulation Material: Nylon; Contact Material: Brass; Contact Finish - Mating: SN ON NI; Contact Finish - Termination: TIN OVER NICKEL; Min Operating Temperature: -25°C; Max Operating Temperature: 85°C; Contact Gender: Male; Mounting Style: STRAIGHT; Number Of Connectors: 1; Number Of PCB Rows: 1; PCB Contact Pattern: RECTANGULAR; Termination: Solder; Terminal Length: 0.134inch; Terminal Pitch: 2.54mm; Reach SVHC Compliant: Yes; RoHS Compliant: Yes; ComponentLink1URL: https://datasheet.ciiva.com:443/pdfs/VipMasterIC/IC/SUCS/SUCSS00231/SUCSS00231-1.pdf?src-supplier=IHS+Markit; ComponentLink1Description: https://datasheet.ciiva.com:443/pdfs/VipMasterIC/IC/SUCS/SUCSS00231/SUCSS00231-1.pdf?src-supplier=IHS+Markit; ComponentLink2URL: https://datasheet.ciiva.com/740/swr25x-nrtc-sxx-st-ba-740721.pdf?src-supplier=Digikey; ComponentLink2Description: https://datasheet.ciiva.com/740/swr25x-nrtc-sxx-st-ba-740721.pdf?src-supplier=Digikey
footprint CON_SWR25X_3P_2P54_PITCH
pins: 1, 2, 3

## SWR25X-NRTC-S04-ST-BA
designator J?
CONN HEADER VERT 4POS 2.54MM; Manufacturer: Sullins; Manufacturer Series: SWR25X; Connector Type: BOARD CONNECTOR; Contact Pattern: RECTANGULAR; Contact Resistance: 20mR; Contact Style: SQ PIN-SKT; Dielectric Withstanding Voltage (AC): 1kV; Insulation Resistance: 1GR; Number of Rows Loaded: 1; Polarization Key: POLARIZED HOUSING; Rated Current (Signal): 5A; Number of Contacts: 4; Body Breadth: 0.228inch; Body Depth: 0.449inch; Body Length: 0.402inch; Mating Contact Pitch: 0.1inch; Mounting Option 1: LOCKING; Reference Standard: UL; Reliability: COMMERCIAL; Supplier: Digikey; Supplier Part Number: S9410-ND; Manufacturer Part Number: SWR25X-NRTC-S04-ST-BA; RoHS: Yes; Category: Connectors; Stock: 26691; Pricing: 1=0.19, 10=0.16, 100=0.123, 500=0.1041, 2000=0.08045, 6000=0.07571, 10000=0.06861 (USD); Mounting Technology: Board; Insulation Color: Beige; Insulation Material: Nylon; Contact Material: Brass; Contact Finish - Mating: SN ON NI; Contact Finish - Termination: TIN OVER NICKEL; Min Operating Temperature: -25°C; Max Operating Temperature: 85°C; Contact Gender: Male; Mounting Style: STRAIGHT; Number Of Connectors: 1; Number Of PCB Rows: 1; PCB Contact Pattern: RECTANGULAR; Termination: Solder; Terminal Length: 0.134inch; Terminal Pitch: 2.54mm; Reach SVHC Compliant: Yes; RoHS Compliant: Yes; ComponentLink1URL: https://datasheet.ciiva.com:443/pdfs/VipMasterIC/IC/SUCS/SUCSS00231/SUCSS00231-1.pdf?src-supplier=IHS+Markit; ComponentLink1Description: https://datasheet.ciiva.com:443/pdfs/VipMasterIC/IC/SUCS/SUCSS00231/SUCSS00231-1.pdf?src-supplier=IHS+Markit; ComponentLink2URL: https://datasheet.ciiva.com/740/swr25x-nrtc-sxx-st-ba-740722.pdf?src-supplier=Digikey; ComponentLink2Description: https://datasheet.ciiva.com/740/swr25x-nrtc-sxx-st-ba-740722.pdf?src-supplier=Digikey; ComponentLink3URL: https://datasheet.ciiva.com/16492/swr25x-nrtc-st-ba-16492075.pdf?src-supplier=Future+Electronics; ComponentLink3Description: https://datasheet.ciiva.com/16492/swr25x-nrtc-st-ba-16492075.pdf?src-supplier=Future+Electronics
footprint CON_SWR25X_4P_2P54_PITCH
pins: 1, 2, 3, 4

## SWR25X-NRTC-S06-ST-BA
designator J?
CONN HEADER VERT 6POS 2.54MM; Manufacturer: Sullins; Manufacturer Series: SWR25X; Connector Type: BOARD CONNECTOR; Contact Pattern: RECTANGULAR; Contact Resistance: 20mR; Contact Style: SQ PIN-SKT; Dielectric Withstanding Voltage (AC): 1kV; Insulation Resistance: 1GR; Number of Rows Loaded: 1; Polarization Key: POLARIZED HOUSING; Rated Current (Signal): 5A; Number of Contacts: 6; Body Breadth: 0.228inch; Body Depth: 0.449inch; Body Length: 0.602inch; Mating Contact Pitch: 0.1inch; Mounting Option 1: LOCKING; Reference Standard: UL; Reliability: COMMERCIAL; Supplier: Digikey; Supplier Part Number: S9414-ND; Manufacturer Part Number: SWR25X-NRTC-S06-ST-BA; RoHS: Yes; Category: Headers and Wire Housings; Stock: 8896; Pricing: 1=0.26, 10=0.224, 100=0.1739, 500=0.14906, 2000=0.11783, 6000=0.10647, 10000=0.1014 (USD); Mounting Technology: Board; Insulation Color: Beige; Insulation Material: Nylon; Contact Material: Brass; Contact Finish - Mating: SN ON NI; Contact Finish - Termination: TIN OVER NICKEL; Min Operating Temperature: -25°C; Max Operating Temperature: 85°C; Contact Gender: Male; Mounting Style: STRAIGHT; Number Of Connectors: 1; Number Of PCB Rows: 1; PCB Contact Pattern: RECTANGULAR; Termination: Solder; Terminal Length: 0.134inch; Terminal Pitch: 2.54mm; Reach SVHC Compliant: Yes; RoHS Compliant: Yes; ComponentLink1URL: https://datasheet.ciiva.com:443/pdfs/VipMasterIC/IC/SUCS/SUCSS00231/SUCSS00231-1.pdf?src-supplier=IHS+Markit; ComponentLink1Description: https://datasheet.ciiva.com:443/pdfs/VipMasterIC/IC/SUCS/SUCSS00231/SUCSS00231-1.pdf?src-supplier=IHS+Markit; ComponentLink2URL: https://datasheet.ciiva.com/740/swr25x-nrtc-sxx-st-ba-740724.pdf?src-supplier=Digikey; ComponentLink2Description: https://datasheet.ciiva.com/740/swr25x-nrtc-sxx-st-ba-740724.pdf?src-supplier=Digikey; ComponentLink3URL: https://datasheet.ciiva.com/16492/swr25x-nrtc-st-ba-16492093.pdf?src-supplier=Future+Electronics; ComponentLink3Description: https://datasheet.ciiva.com/16492/swr25x-nrtc-st-ba-16492093.pdf?src-supplier=Future+Electronics
footprint CON_SWR25X_6P_2P54_PITCH
pins: 1, 2, 3, 4, 5, 6

## SWR25X-NRTC-S08-ST-BA
designator J?
CONN HEADER VERT 8POS 2.54MM; Manufacturer: Sullins; Manufacturer Series: SWR25X; Connector Type: BOARD CONNECTOR; Contact Pattern: RECTANGULAR; Contact Resistance: 20mR; Contact Style: SQ PIN-SKT; Dielectric Withstanding Voltage (AC): 1kV; Insulation Resistance: 1GR; Number of Rows Loaded: 1; Polarization Key: POLARIZED HOUSING; Rated Current (Signal): 5A; Number of Contacts: 8; Body Breadth: 0.228inch; Body Depth: 0.449inch; Body Length: 0.806inch; Mating Contact Pitch: 0.1inch; Mounting Option 1: LOCKING; Reference Standard: UL; Reliability: COMMERCIAL; Supplier: Digikey; Supplier Part Number: S9404-ND; Manufacturer Part Number: SWR25X-NRTC-S08-ST-BA; RoHS: Yes; Category: Connectors; Stock: 2241; Pricing: 1=0.35, 10=0.298, 100=0.2319, 500=0.19874, 2000=0.1571, 6000=0.14196, 10000=0.1352 (USD); Mounting Technology: Board; Insulation Color: Beige; Insulation Material: Nylon; Contact Material: Brass; Contact Finish - Mating: SN ON NI; Contact Finish - Termination: TIN OVER NICKEL; Min Operating Temperature: -25°C; Max Operating Temperature: 85°C; Contact Gender: Male; Mounting Style: STRAIGHT; Number Of Connectors: 1; Number Of PCB Rows: 1; PCB Contact Pattern: RECTANGULAR; Termination: Solder; Terminal Length: 0.134inch; Terminal Pitch: 2.54mm; Reach SVHC Compliant: Yes; RoHS Compliant: Yes; ComponentLink1URL: https://datasheet.ciiva.com:443/pdfs/VipMasterIC/IC/SUCS/SUCSS00231/SUCSS00231-1.pdf?src-supplier=IHS+Markit; ComponentLink1Description: https://datasheet.ciiva.com:443/pdfs/VipMasterIC/IC/SUCS/SUCSS00231/SUCSS00231-1.pdf?src-supplier=IHS+Markit; ComponentLink2URL: https://datasheet.ciiva.com/16492/swr25x-nrtc-st-ba-16492097.pdf?src-supplier=Future+Electronics; ComponentLink2Description: https://datasheet.ciiva.com/16492/swr25x-nrtc-st-ba-16492097.pdf?src-supplier=Future+Electronics; ComponentLink3URL: https://datasheet.ciiva.com/740/swr25x-nrtc-sxx-st-ba-740726.pdf?src-supplier=Digikey; ComponentLink3Description: https://datasheet.ciiva.com/740/swr25x-nrtc-sxx-st-ba-740726.pdf?src-supplier=Digikey
footprint CON_SWR25X_8P_2P54_PITCH
pins: 1, 2, 3, 4, 5, 6, 7, 8

## USB4105-GF-A
designator J?
CONN RCP USB2.0 TYP C 16P SMD RA; Manufacturer: Global Connector Technology; Description: USB Connector, 24 Contact(s), Female, Right Angle, Solder Terminal, Locking, Receptacle; Contact Resistance: 50mΩ; Current Rating: 6.25A; Dielectric Material: Liquid Crystal Polymer; Gender: Receptacle; Insulation Resistance: 100MΩ; Number of Contacts: 16; Number of Ports: 1; Voltage Rating: 20V; Supplier: DigiKey; Supplier Part Number: 2073-USB4105-GF-ACT-ND; Manufacturer Part Number: USB4105-GF-A; RoHS: Compliant; Category: USB Connectors; Stock: 6325; Pricing: 1=0.78, 10=0.658, 25=0.6172, 50=0.5876, 100=0.5595, 250=0.5244 (USD); China RoHS: Compliant; Contact Gender: Female; Contact Material: Gold, Nickel; Height: 3.46mm; Lifecycle Status: Production; Max Operating Temperature: 85°C; Min Operating Temperature: -40°C; Pins: 24; Number of Rows: 1; Orientation: Horizontal; REACH SVHC: Yes; Shell Finish: Nickel; Shell Material: Stainless Steel; Terminal Pitch: 500µm; USB Standard: USB 2.0; ComponentLink1URL: https://datasheet.octopart.com:443/USB4105-GF-A-GCT-datasheet-166929323.pdf?src-supplier=SOS+electronic; ComponentLink1Description: https://datasheet.octopart.com:443/USB4105-GF-A-GCT-datasheet-166929323.pdf?src-supplier=SOS+electronic; ComponentLink2URL: https://datasheet.octopart.com:443/USB4105-GF-A-GCT-datasheet-188935996.pdf?src-supplier=TME; ComponentLink2Description: https://datasheet.octopart.com:443/USB4105-GF-A-GCT-datasheet-188935996.pdf?src-supplier=TME; ComponentLink3URL: https://datasheet.octopart.com:443/USB4105-GF-A-GCT-datasheet-188869076.pdf?src-supplier=TME; ComponentLink3Description: https://datasheet.octopart.com:443/USB4105-GF-A-GCT-datasheet-188869076.pdf?src-supplier=TME; ComponentLink4URL: https://datasheet.octopart.com:443/USB4105-GF-A-GCT-datasheet-166927665.pdf?src-supplier=TME; ComponentLink4Description: https://datasheet.octopart.com:443/USB4105-GF-A-GCT-datasheet-166927665.pdf?src-supplier=TME
footprint USB4105-GF-A
pins: A1_B12 GND (power), A4 VBUS, A5 CC1, A6 DP1, A7 DN1, A8 SBU1, A9 VBUS, B1_A12 GND (power), B4 VBUS, B5 CC2, B6 DP2, B7 DN2, B8 SUB2, B9 VBUS, SH SHIELD

## USB-B1HSW6
designator J?
CONN RCPT TYPEB 4POS R/A; Manufacturer: On-Shore Technology; Connector Type: USB; Board Mounting Option: SPLIT BOARD LOCK; Contact Resistance: 30mR; Dielectric Withstanding Voltage (AC): 750V; Insulation Resistance: 1GR; Number Of Connectors: 1; Number Of PCB Rows: 2; PCB Contact Pattern: RECTANGULAR; Polarization Key: POLARIZED HOUSING; Rated Current (Signal): 1A; Number of Contacts: 4; Body Breadth: 0.429inch; Body Depth: 0.65inch; Body Length: 0.476inch; Mounting Option 1: LOCKING; PCB Contact Row Spacing: 2.0066mm; Reference Standard: UL; Reliability: COMMERCIAL; Supplier: Digikey; Supplier Part Number: ED2982-ND; Manufacturer Part Number: USB-B1HSW6; RoHS: Yes; Category: Connectors; Stock: 89686; Pricing: 1=0.49, 10=0.424, 25=0.3876, 60=0.36467, 120=0.3495, 240=0.31908, 480=0.30388, 960=0.2675 (USD); Mounting Technology: Board; Contact Material: Bronze; Contact Finish - Mating: AU ON NI; Insulation Material: Glass; Shell Finish: Tin; Shell Material: Brass; Min Operating Temperature: 0°C; Max Operating Temperature: 50°C; Contact Gender: Female; Contact Style: USB; Manufacturer Series: USB-B1HS; Mounting Style: RIGHT ANGLE; Termination: Solder; Terminal Length: 0.11inch; Terminal Pitch: 2.54mm; Reach SVHC Compliant: Yes; RoHS Compliant: Yes; ComponentLink1URL: https://datasheet.ciiva.com:443/pdfs/VipMasterIC/IC/ONST/ONST-S-Z0000000691/ONST-S-Z0000000691-1.pdf?src-supplier=IHS+Markit; ComponentLink1Description: https://datasheet.ciiva.com:443/pdfs/VipMasterIC/IC/ONST/ONST-S-Z0000000691/ONST-S-Z0000000691-1.pdf?src-supplier=IHS+Markit; ComponentLink2URL: http://www.on-shore.com/wp-content/uploads/2015/09/usb-b1hsxx.pdf?src-supplier=Digikey; ComponentLink2Description: http://www.on-shore.com/wp-content/uploads/2015/09/usb-b1hsxx.pdf?src-supplier=Digikey
footprint USB_B
pins: 1 VBUS, 2 DATA-, 3 DATA+, 4 GND, 5 SHIELD, 6 SHIELD